# Altium footprint library connectors.PcbLib: 13 footprints
Each footprint in its own frame and in the unit in brackets; x right, y up, seen from the top. Pads: shape width x height; smd on the part's side, far side on the other; paste and mask are expansions set on the pad; w line width, h text height; cw(c..) or ccw(c..) is an arc to the next point about the centre after c.
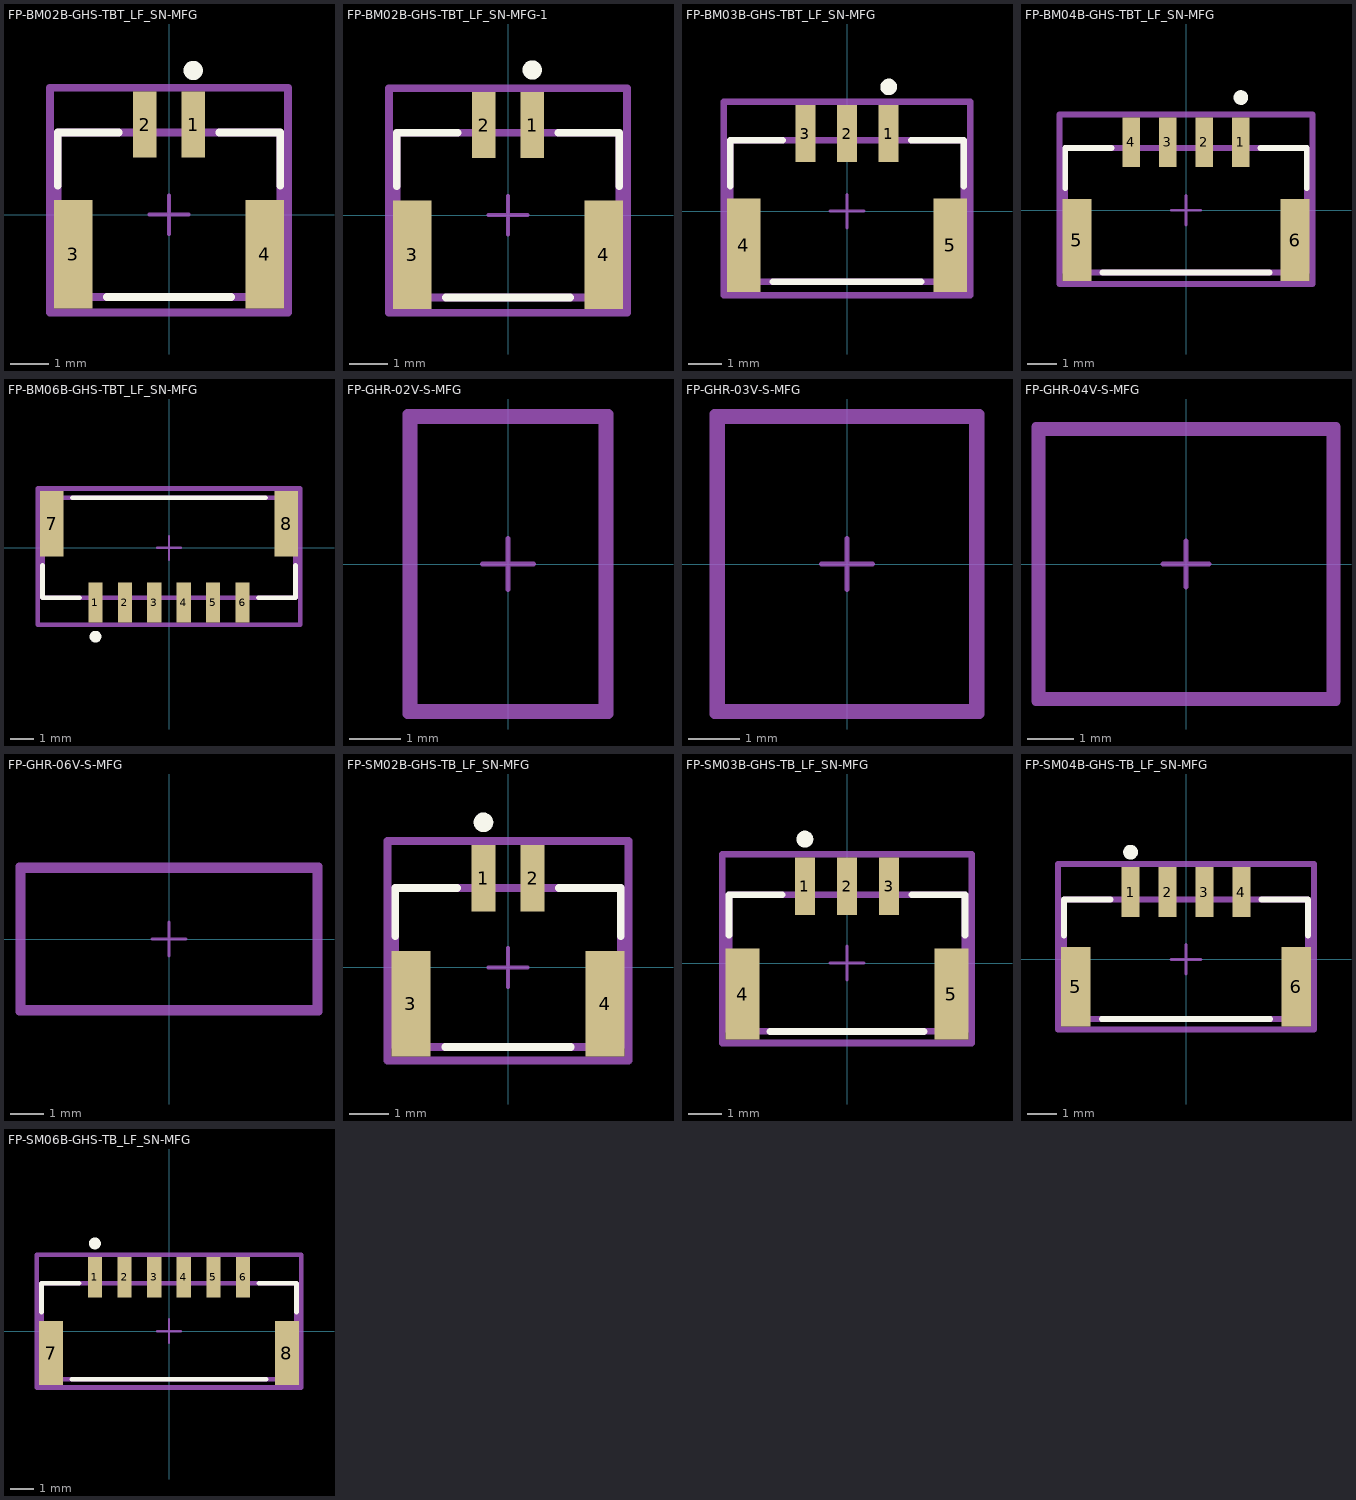
[diagram p0: the footprints below, top view; thin cyan lines are the x and y axes]

## FP-BM02B-GHS-TBT_LF_SN-MFG [mm]
pads (4):
  rect 0.6x1.7 smd paste+0 mask+0: 1(0.625,2.325) 2(-0.625,2.325)
  rect 1x2.8 smd paste+0 mask+0: 3(-2.475,-1.025) 4(2.475,-1.025)
Top Overlay:
  circle w0.25: c0.625,3.725 r0.125
  lines w0.2: -2.875,0.75 -2.875,2.125 -1.3,2.125 ; -1.6,-2.125 1.6,-2.125 ; 1.3,2.125 2.875,2.125 2.875,0.75
Top Assembly:
  lines w0.2: -3.075,-2.525 -3.075,3.275 3.075,3.275 3.075,-2.525 -3.075,-2.525
  text ".Designator" at 0,0.563 h1
Top 3D Body:
  lines w0.2: -2.875,-2.125 -2.875,2.125 2.875,2.125 2.875,-2.125 -2.875,-2.125
Top Courtyard:
  lines w0.2: -3.075,-2.525 -3.075,3.275 3.075,3.275 3.075,-2.525 -3.075,-2.525
Top Component Center:
  lines w0.1: -0.5,0 0.5,0 ; 0,-0.5 0,0.5
3D body "Conn_JST_BM02B-GHS-TBT_LF_SN_N_eec.STEP": height 0.25, standoff 0, extent -3.075,-2.525 3.075,3.275

## FP-BM02B-GHS-TBT_LF_SN-MFG-1 [mm]
pads (4):
  rect 0.6x1.7 smd paste+0 mask+0: 1(0.625,2.325) 2(-0.625,2.325)
  rect 1x2.8 smd paste+0 mask+0: 3(-2.475,-1.025) 4(2.475,-1.025)
Top Overlay:
  circle w0.25: c0.625,3.75 r0.125
  lines w0.2: -2.875,0.75 -2.875,2.125 -1.3,2.125 ; -1.6,-2.125 1.6,-2.125 ; 1.3,2.125 2.875,2.125 2.875,0.75
Top Assembly:
  lines w0.2: -3.075,-2.525 -3.075,3.275 3.075,3.275 3.075,-2.525 -3.075,-2.525
  text ".Designator" at 0,0.563 h1
Top 3D Body:
  lines w0.2: -2.875,-2.125 -2.875,2.125 2.875,2.125 2.875,-2.125 -2.875,-2.125
Top Courtyard:
  lines w0.2: -3.075,-2.525 -3.075,3.275 3.075,3.275 3.075,-2.525 -3.075,-2.525
Top Component Center:
  lines w0.1: -0.5,0 0.5,0 ; 0,-0.5 0,0.5
3D body "Conn_JST_BM02B-GHS-TBT_LF_SN_eec.STEP": height 0.25, standoff 0, extent -3.075,-2.525 3.075,3.275

## FP-BM03B-GHS-TBT_LF_SN-MFG [mm]
pads (5):
  rect 0.6x1.7 smd paste+0 mask+0: 1(1.25,2.325) 2(0,2.325) 3(-1.25,2.325)
  rect 1x2.8 smd paste+0 mask+0: 4(-3.1,-1.025) 5(3.1,-1.025)
Top Overlay:
  circle w0.25: c1.25,3.725 r0.125
  lines w0.2: -3.5,0.75 -3.5,2.125 -1.925,2.125 ; -2.225,-2.125 2.225,-2.125 ; 1.925,2.125 3.5,2.125 3.5,0.75
Top Assembly:
  lines w0.2: -3.7,-2.525 -3.7,3.275 3.7,3.275 3.7,-2.525 -3.7,-2.525
  text ".Designator" at 0,0.563 h1
Top 3D Body:
  lines w0.2: -3.5,-2.125 -3.5,2.125 3.5,2.125 3.5,-2.125 -3.5,-2.125
Top Courtyard:
  lines w0.2: -3.7,-2.525 -3.7,3.275 3.7,3.275 3.7,-2.525 -3.7,-2.525
Top Component Center:
  lines w0.1: -0.5,0 0.5,0 ; 0,-0.5 0,0.5
3D body "Conn_JST_BM03B-GHS-TBT_LF_SN_eec.STEP": height 0.25, standoff 0, extent -3.7,-2.525 3.7,3.275

## FP-BM04B-GHS-TBT_LF_SN-MFG [mm]
pads (6):
  rect 0.6x1.7 smd paste+0 mask+0: 1(1.875,2.325) 2(0.625,2.325) 3(-0.625,2.325) 4(-1.875,2.325)
  rect 1x2.8 smd paste+0 mask+0: 5(-3.725,-1.025) 6(3.725,-1.025)
Top Overlay:
  circle w0.25: c1.875,3.85 r0.125
  lines w0.2: -4.125,0.75 -4.125,2.125 -2.55,2.125 ; -2.85,-2.125 2.85,-2.125 ; 2.55,2.125 4.125,2.125 4.125,0.75
Top Assembly:
  lines w0.2: -4.325,-2.525 -4.325,3.275 4.325,3.275 4.325,-2.525 -4.325,-2.525
  text ".Designator" at 0,0.563 h1
Top 3D Body:
  lines w0.2: -4.125,-2.125 -4.125,2.125 4.125,2.125 4.125,-2.125 -4.125,-2.125
Top Courtyard:
  lines w0.2: -4.325,-2.525 -4.325,3.275 4.325,3.275 4.325,-2.525 -4.325,-2.525
Top Component Center:
  lines w0.1: -0.5,0 0.5,0 ; 0,-0.5 0,0.5
3D body "Conn_JST_BM04B-GHS-TBT_LF_SN_N_eec.STEP": height 0.25, standoff 0, extent -4.325,-2.525 4.325,3.275

## FP-BM06B-GHS-TBT_LF_SN-MFG [mm]
pads (8):
  rect 0.6x1.7 smd paste+0 mask+0: 1(-3.125,-2.325) 2(-1.875,-2.325) 3(-0.625,-2.325) 4(0.625,-2.325) 5(1.875,-2.325) 6(3.125,-2.325)
  rect 1x2.8 smd paste+0 mask+0: 7(-4.975,1.025) 8(4.975,1.025)
Top Overlay:
  circle w0.25: c-3.125,-3.775 r0.125
  lines w0.2: -5.375,-0.75 -5.375,-2.125 -3.8,-2.125 ; -4.1,2.125 4.1,2.125 ; 3.8,-2.125 5.375,-2.125 5.375,-0.75
Top Assembly:
  lines w0.2: -5.575,-3.275 -5.575,2.525 5.575,2.525 5.575,-3.275 -5.575,-3.275
  text ".Designator" at 0,-0.187 h1
Top 3D Body:
  lines w0.2: -5.375,-2.125 -5.375,2.125 5.375,2.125 5.375,-2.125 -5.375,-2.125
Top Courtyard:
  lines w0.2: -5.575,-3.275 -5.575,2.525 5.575,2.525 5.575,-3.275 -5.575,-3.275
Top Component Center:
  lines w0.1: -0.5,0 0.5,0 ; 0,-0.5 0,0.5
3D body "Conn_JST_BM06B-GHS-TBT_LF_SN_eec.STEP": height 0.25, standoff 0, extent -5.575,-3.275 5.575,2.525

## FP-GHR-02V-S-MFG [mm]
Top Assembly:
  lines w0.2: -1.975,-2.95 -1.975,2.95 1.975,2.95 1.975,-2.95 -1.975,-2.95
Top 3D Body:
  lines w0.2: -1.875,-2.85 -1.875,2.85 1.875,2.85 1.875,-2.85 -1.875,-2.85
Top Courtyard:
  lines w0.2: -1.975,-2.95 -1.975,2.95 1.975,2.95 1.975,-2.95 -1.975,-2.95
Top Component Center:
  lines w0.1: -0.5,0 0.5,0 ; 0,-0.5 0,0.5
3D body "Conn_JST_GHR-02V-S_eec.STEP": height 0.25, standoff 0, extent -1.975,-2.95 1.975,2.95

## FP-GHR-03V-S-MFG [mm]
Top Assembly:
  lines w0.2: -2.6,-2.95 -2.6,2.95 2.6,2.95 2.6,-2.95 -2.6,-2.95
Top 3D Body:
  lines w0.2: -2.5,-2.85 -2.5,2.85 2.5,2.85 2.5,-2.85 -2.5,-2.85
Top Courtyard:
  lines w0.2: -2.6,-2.95 -2.6,2.95 2.6,2.95 2.6,-2.95 -2.6,-2.95
Top Component Center:
  lines w0.1: -0.5,0 0.5,0 ; 0,-0.5 0,0.5
3D body "Conn_JST_GHR-03V-S_eec.STEP": height 0.25, standoff 0, extent -2.6,-2.95 2.6,2.95

## FP-GHR-04V-S-MFG [mm]
Top Assembly:
  lines w0.2: -3.225,-2.95 -3.225,2.95 3.225,2.95 3.225,-2.95 -3.225,-2.95
Top 3D Body:
  lines w0.2: -3.125,-2.85 -3.125,2.85 3.125,2.85 3.125,-2.85 -3.125,-2.85
Top Courtyard:
  lines w0.2: -3.225,-2.95 -3.225,2.95 3.225,2.95 3.225,-2.95 -3.225,-2.95
Top Component Center:
  lines w0.1: -0.5,0 0.5,0 ; 0,-0.5 0,0.5
3D body "Conn_JST_GHR-04V-S_eec.STEP": height 0.25, standoff 0, extent -3.225,-2.95 3.225,2.95

## FP-GHR-06V-S-MFG [mm]
Top Assembly:
  lines w0.2: -4.475,-2.175 -4.475,2.175 4.475,2.175 4.475,-2.175 -4.475,-2.175
Top 3D Body:
  lines w0.2: -4.375,-2.075 -4.375,2.075 4.375,2.075 4.375,-2.075 -4.375,-2.075
Top Courtyard:
  lines w0.2: -4.475,-2.175 -4.475,2.175 4.475,2.175 4.475,-2.175 -4.475,-2.175
Top Component Center:
  lines w0.1: -0.5,0 0.5,0 ; 0,-0.5 0,0.5
3D body "Conn_JST_GHR-06V-S_eec.STEP": height 0.25, standoff 0, extent -4.475,-2.175 4.475,2.175

## FP-SM02B-GHS-TB_LF_SN-MFG [mm]
pads (4):
  rect 0.6x1.7 smd paste+0 mask+0: 1(-0.625,2.275) 2(0.625,2.275)
  rect 1x2.7 smd paste+0 mask+0: 3(-2.475,-0.925) 4(2.475,-0.925)
Top Overlay:
  circle w0.25: c-0.625,3.7 r0.125
  lines w0.2: -2.875,0.8 -2.875,2.025 -1.3,2.025 ; -1.6,-2.025 1.6,-2.025 ; 1.3,2.025 2.875,2.025 2.875,0.8
Top Assembly:
  lines w0.2: -3.075,-2.375 -3.075,3.225 3.075,3.225 3.075,-2.375 -3.075,-2.375
  text ".Designator" at 0,0.613 h1
Top 3D Body:
  lines w0.2: -2.875,-2.025 -2.875,2.025 2.875,2.025 2.875,-2.025 -2.875,-2.025
Top Courtyard:
  lines w0.2: -3.075,-2.375 -3.075,3.225 3.075,3.225 3.075,-2.375 -3.075,-2.375
Top Component Center:
  lines w0.1: -0.5,0 0.5,0 ; 0,-0.5 0,0.5
3D body "Conn_JST_SM02B-GHS-TB_LF_SN_eec.STEP": height 0.25, standoff 0, extent -3.075,-2.375 3.075,3.225

## FP-SM03B-GHS-TB_LF_SN-MFG [mm]
pads (5):
  rect 0.6x1.7 smd paste+0 mask+0: 1(-1.25,2.275) 2(0,2.275) 3(1.25,2.275)
  rect 1x2.7 smd paste+0 mask+0: 4(-3.1,-0.925) 5(3.1,-0.925)
Top Overlay:
  circle w0.25: c-1.25,3.675 r0.125
  lines w0.2: -3.5,0.825 -3.5,2.025 -1.925,2.025 ; -2.286,-2.032 2.286,-2.032 ; 1.925,2.025 3.5,2.025 3.5,0.825
Top Assembly:
  lines w0.2: -3.7,-2.375 3.7,-2.375 3.7,3.225 -3.7,3.225 -3.7,-2.375
  text ".Designator" at 0,0.613 h1
Top 3D Body:
  lines w0.2: -3.5,-2.025 3.5,-2.025 3.5,2.025 -3.5,2.025 -3.5,-2.025
Top Courtyard:
  lines w0.2: -3.7,-2.375 3.7,-2.375 3.7,3.225 -3.7,3.225 -3.7,-2.375
Top Component Center:
  lines w0.1: -0.5,0 0.5,0 ; 0,-0.5 0,0.5
3D body "Conn_JST_SM03B-GHS-TB_LF_SN_eec.STEP": height 0.25, standoff 0, extent -3.7,-2.375 3.7,3.225

## FP-SM04B-GHS-TB_LF_SN-MFG [mm]
pads (6):
  rect 0.6x1.7 smd paste+0 mask+0: 1(-1.875,2.275) 2(-0.625,2.275) 3(0.625,2.275) 4(1.875,2.275)
  rect 1x2.7 smd paste+0 mask+0: 5(-3.725,-0.925) 6(3.725,-0.925)
Top Overlay:
  circle w0.25: c-1.875,3.625 r0.125
  lines w0.2: -4.125,0.8 -4.125,2.025 -2.55,2.025 ; -2.85,-2.025 2.85,-2.025 ; 2.55,2.025 4.125,2.025 4.125,0.8
Top Assembly:
  lines w0.2: -4.325,-2.375 -4.325,3.225 4.325,3.225 4.325,-2.375 -4.325,-2.375
  text ".Designator" at 0,0.613 h1
Top 3D Body:
  lines w0.2: -4.125,-2.025 -4.125,2.025 4.125,2.025 4.125,-2.025 -4.125,-2.025
Top Courtyard:
  lines w0.2: -4.325,-2.375 -4.325,3.225 4.325,3.225 4.325,-2.375 -4.325,-2.375
Top Component Center:
  lines w0.1: -0.5,0 0.5,0 ; 0,-0.5 0,0.5
3D body "Conn_JST_SM04B-GHS-TB_LF_SN_eec.STEP": height 0.25, standoff 0, extent -4.325,-2.375 4.325,3.225

## FP-SM06B-GHS-TB_LF_SN-MFG [mm]
pads (8):
  rect 0.6x1.7 smd paste+0 mask+0: 1(-3.125,2.275) 2(-1.875,2.275) 3(-0.625,2.275) 4(0.625,2.275) 5(1.875,2.275) 6(3.125,2.275)
  rect 1x2.7 smd paste+0 mask+0: 7(-4.975,-0.925) 8(4.975,-0.925)
Top Overlay:
  circle w0.25: c-3.125,3.7 r0.125
  lines w0.2: -5.375,0.8 -5.375,2.025 -3.8,2.025 ; -4.1,-2.025 4.1,-2.025 ; 3.8,2.025 5.375,2.025 5.375,0.8
Top Assembly:
  lines w0.2: -5.575,-2.375 -5.575,3.225 5.575,3.225 5.575,-2.375 -5.575,-2.375
  text ".Designator" at 0,0.613 h1
Top 3D Body:
  lines w0.2: -5.375,-2.025 -5.375,2.025 5.375,2.025 5.375,-2.025 -5.375,-2.025
Top Courtyard:
  lines w0.2: -5.575,-2.375 -5.575,3.225 5.575,3.225 5.575,-2.375 -5.575,-2.375
Top Component Center:
  lines w0.1: -0.5,0 0.5,0 ; 0,-0.5 0,0.5
3D body "Conn_JST_SM06B-GHS-TB_LF_SN_eec.STEP": height 0.25, standoff 0, extent -5.575,-2.375 5.575,3.225